# Altium schematic symbol library HCPL-0930.SchLib: 1 symbol
Pins are listed as number, name and electrical type; pins without a type are passive.

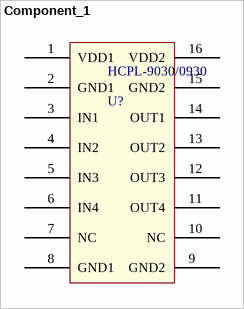
[diagram p0: symbol Component_1]

## Component_1
designator HCPL-9030/0930, comment U?
footprint HCPL-0930
footprint Model Name (Footprint not found)
pins: 1 VDD1 (power), 2 GND1 (power), 3 IN1, 4 IN2, 5 IN3, 6 IN4, 7 NC, 8 GND1 (power), 9 GND2 (power), 10 NC, 11 OUT4, 12 OUT3, 13 OUT2, 14 OUT1, 15 GND2 (power), 16 VDD2 (power)